# EAGLE library part TPS54JA20RWWR (library TPS54JA20RWWR)
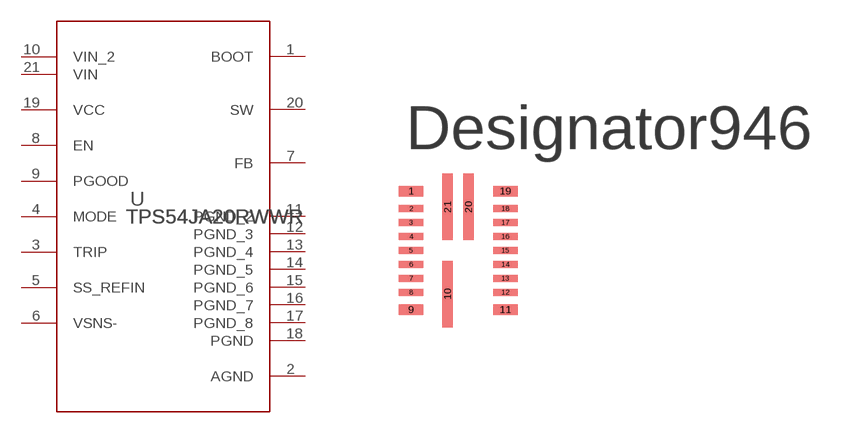
[diagram p0: symbol with the pads of RWW0021A; footprint RWW0021A]

Designator prefix U

## TPS54JA20RWWR (MANUFACTURER_PART_NUMBER: TPS54JA20RWWR)  [RWW0021A]
1  BOOT  pwr
2  AGND  pwr
3  TRIP
4  MODE  out
5  SS_REFIN  in
6  VSNS-  in
7  FB  in
8  EN  in
9  PGOOD  oc
10  VIN_2  pwr
11  PGND_2  pwr
12  PGND_3  pwr
13  PGND_4  pwr
14  PGND_5  pwr
15  PGND_6  pwr
16  PGND_7  pwr
17  PGND_8  pwr
18  PGND  pwr
19  VCC  pwr
20  SW  pwr
21  VIN  pwr

## Footprint RWW0021A (pad centres in mm)
smd 0.7 x 0.3: 1 -1.35,1.7; 9 -1.35,-1.7; 11 1.35,-1.7; 19 1.35,1.7
smd 0.7 x 0.2: 2 -1.35,1.2; 3 -1.35,0.8; 4 -1.35,0.4; 5 -1.35,0; 6 -1.35,-0.4; 7 -1.35,-0.8; 8 -1.35,-1.2; 12 1.35,-1.2; 13 1.35,-0.8; 14 1.35,-0.4; 15 1.35,0; 16 1.35,0.4; 17 1.35,0.8; 18 1.35,1.2
smd 0.3 x 1.9: 10 -0.3,-1.25; 20 0.3,1.25; 21 -0.3,1.25